# EAGLE library part STM32L476VGT6 (library STM32L476VGT6)
Ultra-low-power with FPU ARM Cortex-M4 MCU 80 MHz with 1 Mbyte Flash, LCD, USB OTG
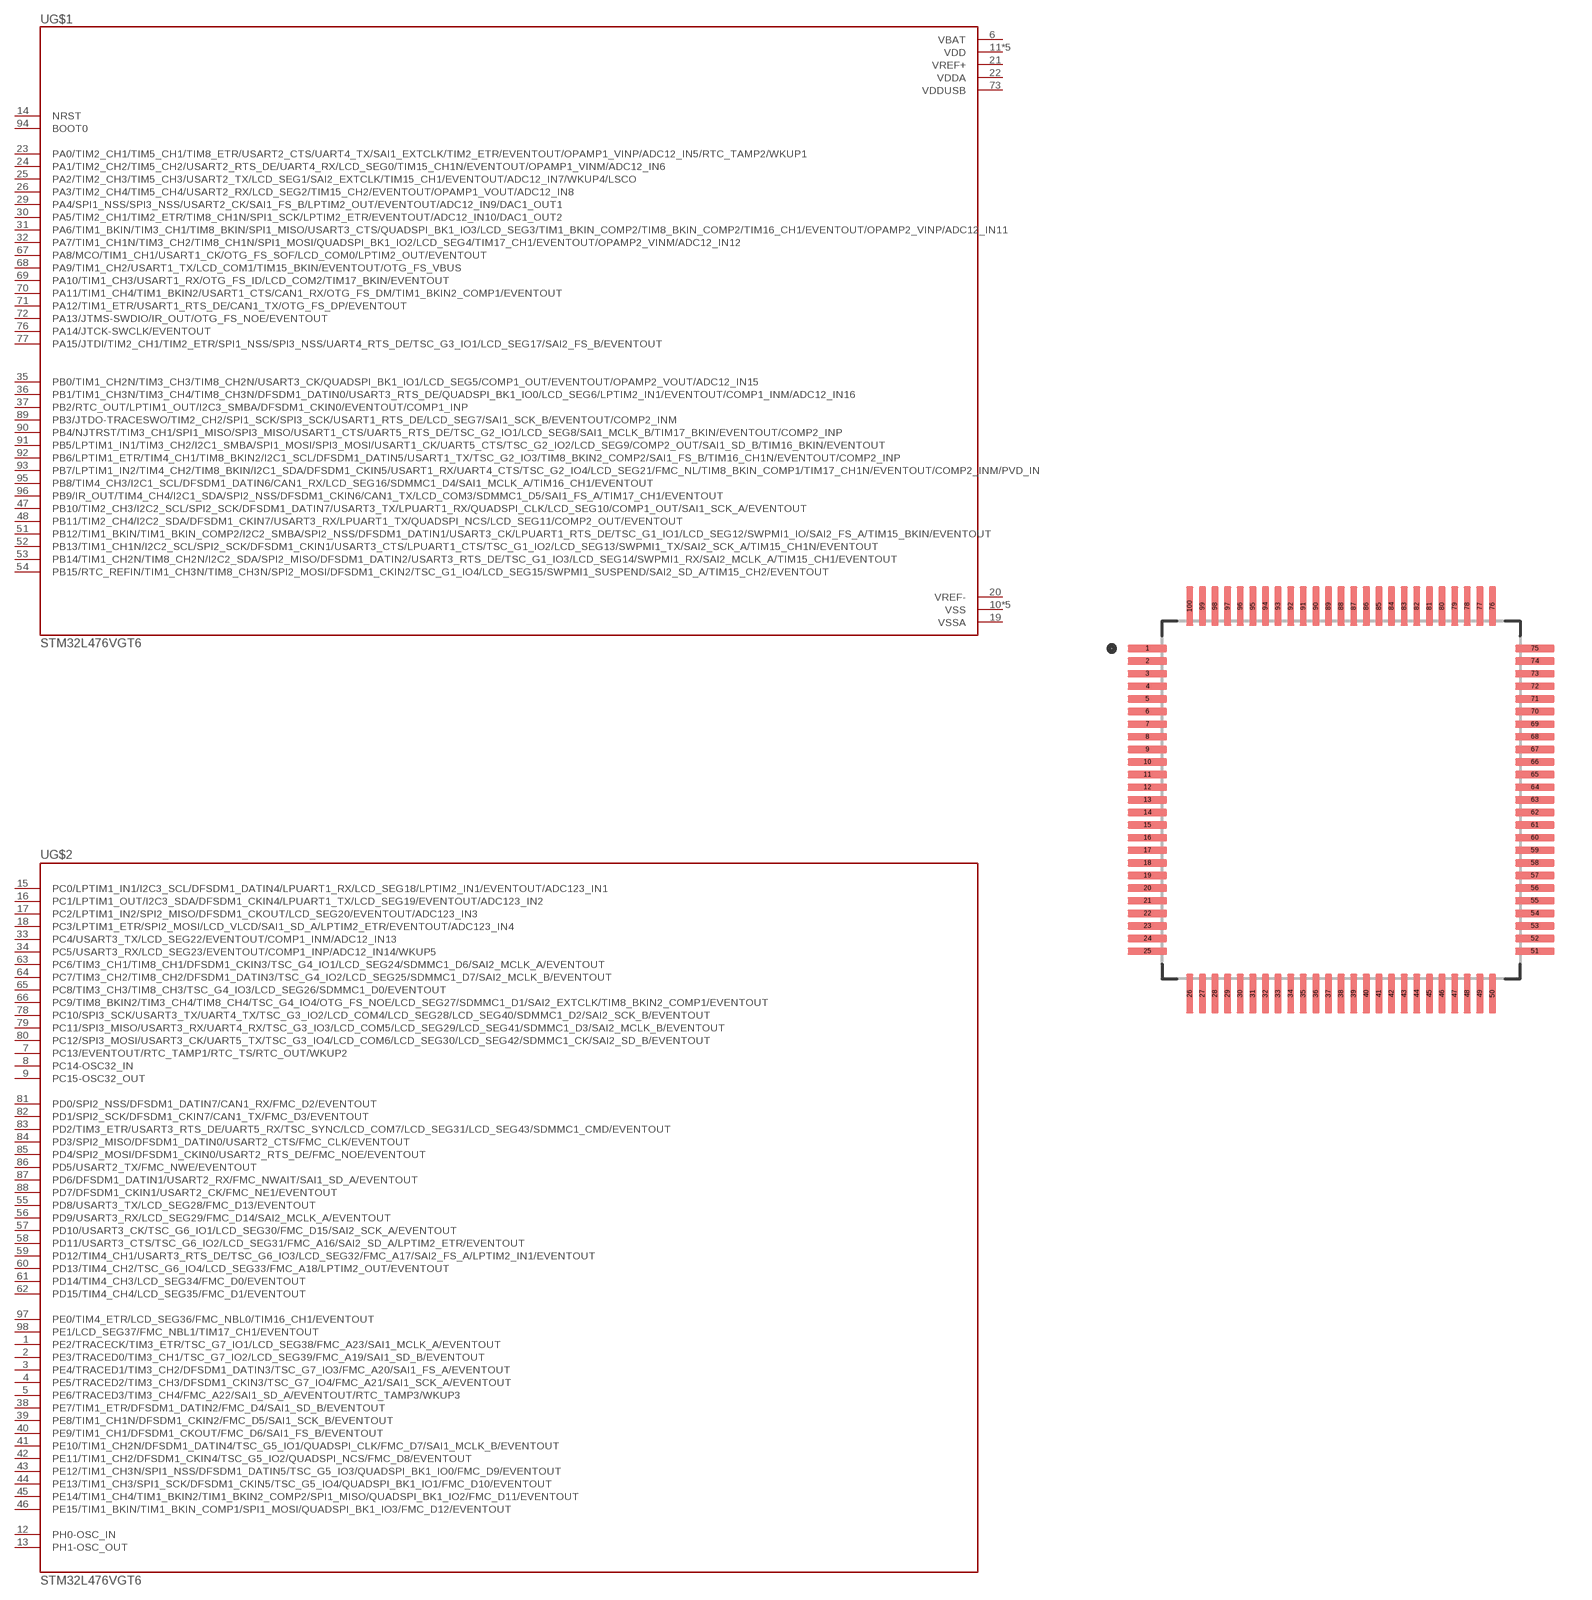
[diagram p0: symbol with the pads of QFP50P1600X1600X160-100N; footprint QFP50P1600X1600X160-100N]

Designator prefix U; gates G$1=STM32L476VGT6_SECTION1 G$2=STM32L476VGT6_SECTION2

## STM32L476VGT6 (Availability: Unavailable; Description: ARM® Cortex®-M4 STM32L4 Microcontroller IC 32-Bit 80MHz 1MB _1M x 8_ FLASH 100-LQFP _14x14_; MF: STMicroelectronics; MP: STM32L476VGT6; Package: LQFP-100 STMicroelectronics; Price: None)  [QFP50P1600X1600X160-100N]
1  G$2:PE2/TRACECK/TIM3_ETR/TSC_G7_IO1/LCD_SEG38/FMC_A23/SAI1_MCLK_A/EVENTOUT
2  G$2:PE3/TRACED0/TIM3_CH1/TSC_G7_IO2/LCD_SEG39/FMC_A19/SAI1_SD_B/EVENTOUT
3  G$2:PE4/TRACED1/TIM3_CH2/DFSDM1_DATIN3/TSC_G7_IO3/FMC_A20/SAI1_FS_A/EVENTOUT
4  G$2:PE5/TRACED2/TIM3_CH3/DFSDM1_CKIN3/TSC_G7_IO4/FMC_A21/SAI1_SCK_A/EVENTOUT
5  G$2:PE6/TRACED3/TIM3_CH4/FMC_A22/SAI1_SD_A/EVENTOUT/RTC_TAMP3/WKUP3
6  G$1:VBAT  pwr
7  G$2:PC13/EVENTOUT/RTC_TAMP1/RTC_TS/RTC_OUT/WKUP2
8  G$2:PC14-OSC32_IN
9  G$2:PC15-OSC32_OUT
10  G$1:VSS  pwr
11  G$1:VDD  pwr
12  G$2:PH0-OSC_IN
13  G$2:PH1-OSC_OUT
14  G$1:NRST  in
15  G$2:PC0/LPTIM1_IN1/I2C3_SCL/DFSDM1_DATIN4/LPUART1_RX/LCD_SEG18/LPTIM2_IN1/EVENTOUT/ADC123_IN1
16  G$2:PC1/LPTIM1_OUT/I2C3_SDA/DFSDM1_CKIN4/LPUART1_TX/LCD_SEG19/EVENTOUT/ADC123_IN2
17  G$2:PC2/LPTIM1_IN2/SPI2_MISO/DFSDM1_CKOUT/LCD_SEG20/EVENTOUT/ADC123_IN3
18  G$2:PC3/LPTIM1_ETR/SPI2_MOSI/LCD_VLCD/SAI1_SD_A/LPTIM2_ETR/EVENTOUT/ADC123_IN4
19  G$1:VSSA  pwr
20  G$1:VREF-  pwr
21  G$1:VREF+  pwr
22  G$1:VDDA  pwr
23  G$1:PA0/TIM2_CH1/TIM5_CH1/TIM8_ETR/USART2_CTS/UART4_TX/SAI1_EXTCLK/TIM2_ETR/EVENTOUT/OPAMP1_VINP/ADC12_IN5/RTC_TAMP2/WKUP1
24  G$1:PA1/TIM2_CH2/TIM5_CH2/USART2_RTS_DE/UART4_RX/LCD_SEG0/TIM15_CH1N/EVENTOUT/OPAMP1_VINM/ADC12_IN6
25  G$1:PA2/TIM2_CH3/TIM5_CH3/USART2_TX/LCD_SEG1/SAI2_EXTCLK/TIM15_CH1/EVENTOUT/ADC12_IN7/WKUP4/LSCO
26  G$1:PA3/TIM2_CH4/TIM5_CH4/USART2_RX/LCD_SEG2/TIM15_CH2/EVENTOUT/OPAMP1_VOUT/ADC12_IN8
27  G$1:VSS  pwr
28  G$1:VDD  pwr
29  G$1:PA4/SPI1_NSS/SPI3_NSS/USART2_CK/SAI1_FS_B/LPTIM2_OUT/EVENTOUT/ADC12_IN9/DAC1_OUT1
30  G$1:PA5/TIM2_CH1/TIM2_ETR/TIM8_CH1N/SPI1_SCK/LPTIM2_ETR/EVENTOUT/ADC12_IN10/DAC1_OUT2
31  G$1:PA6/TIM1_BKIN/TIM3_CH1/TIM8_BKIN/SPI1_MISO/USART3_CTS/QUADSPI_BK1_IO3/LCD_SEG3/TIM1_BKIN_COMP2/TIM8_BKIN_COMP2/TIM16_CH1/EVENTOUT/OPAMP2_VINP/ADC12_IN11
32  G$1:PA7/TIM1_CH1N/TIM3_CH2/TIM8_CH1N/SPI1_MOSI/QUADSPI_BK1_IO2/LCD_SEG4/TIM17_CH1/EVENTOUT/OPAMP2_VINM/ADC12_IN12
33  G$2:PC4/USART3_TX/LCD_SEG22/EVENTOUT/COMP1_INM/ADC12_IN13
34  G$2:PC5/USART3_RX/LCD_SEG23/EVENTOUT/COMP1_INP/ADC12_IN14/WKUP5
35  G$1:PB0/TIM1_CH2N/TIM3_CH3/TIM8_CH2N/USART3_CK/QUADSPI_BK1_IO1/LCD_SEG5/COMP1_OUT/EVENTOUT/OPAMP2_VOUT/ADC12_IN15
36  G$1:PB1/TIM1_CH3N/TIM3_CH4/TIM8_CH3N/DFSDM1_DATIN0/USART3_RTS_DE/QUADSPI_BK1_IO0/LCD_SEG6/LPTIM2_IN1/EVENTOUT/COMP1_INM/ADC12_IN16
37  G$1:PB2/RTC_OUT/LPTIM1_OUT/I2C3_SMBA/DFSDM1_CKIN0/EVENTOUT/COMP1_INP
38  G$2:PE7/TIM1_ETR/DFSDM1_DATIN2/FMC_D4/SAI1_SD_B/EVENTOUT
39  G$2:PE8/TIM1_CH1N/DFSDM1_CKIN2/FMC_D5/SAI1_SCK_B/EVENTOUT
40  G$2:PE9/TIM1_CH1/DFSDM1_CKOUT/FMC_D6/SAI1_FS_B/EVENTOUT
41  G$2:PE10/TIM1_CH2N/DFSDM1_DATIN4/TSC_G5_IO1/QUADSPI_CLK/FMC_D7/SAI1_MCLK_B/EVENTOUT
42  G$2:PE11/TIM1_CH2/DFSDM1_CKIN4/TSC_G5_IO2/QUADSPI_NCS/FMC_D8/EVENTOUT
43  G$2:PE12/TIM1_CH3N/SPI1_NSS/DFSDM1_DATIN5/TSC_G5_IO3/QUADSPI_BK1_IO0/FMC_D9/EVENTOUT
44  G$2:PE13/TIM1_CH3/SPI1_SCK/DFSDM1_CKIN5/TSC_G5_IO4/QUADSPI_BK1_IO1/FMC_D10/EVENTOUT
45  G$2:PE14/TIM1_CH4/TIM1_BKIN2/TIM1_BKIN2_COMP2/SPI1_MISO/QUADSPI_BK1_IO2/FMC_D11/EVENTOUT
46  G$2:PE15/TIM1_BKIN/TIM1_BKIN_COMP1/SPI1_MOSI/QUADSPI_BK1_IO3/FMC_D12/EVENTOUT
47  G$1:PB10/TIM2_CH3/I2C2_SCL/SPI2_SCK/DFSDM1_DATIN7/USART3_TX/LPUART1_RX/QUADSPI_CLK/LCD_SEG10/COMP1_OUT/SAI1_SCK_A/EVENTOUT
48  G$1:PB11/TIM2_CH4/I2C2_SDA/DFSDM1_CKIN7/USART3_RX/LPUART1_TX/QUADSPI_NCS/LCD_SEG11/COMP2_OUT/EVENTOUT
49  G$1:VSS  pwr
50  G$1:VDD  pwr
51  G$1:PB12/TIM1_BKIN/TIM1_BKIN_COMP2/I2C2_SMBA/SPI2_NSS/DFSDM1_DATIN1/USART3_CK/LPUART1_RTS_DE/TSC_G1_IO1/LCD_SEG12/SWPMI1_IO/SAI2_FS_A/TIM15_BKIN/EVENTOUT
52  G$1:PB13/TIM1_CH1N/I2C2_SCL/SPI2_SCK/DFSDM1_CKIN1/USART3_CTS/LPUART1_CTS/TSC_G1_IO2/LCD_SEG13/SWPMI1_TX/SAI2_SCK_A/TIM15_CH1N/EVENTOUT
53  G$1:PB14/TIM1_CH2N/TIM8_CH2N/I2C2_SDA/SPI2_MISO/DFSDM1_DATIN2/USART3_RTS_DE/TSC_G1_IO3/LCD_SEG14/SWPMI1_RX/SAI2_MCLK_A/TIM15_CH1/EVENTOUT
54  G$1:PB15/RTC_REFIN/TIM1_CH3N/TIM8_CH3N/SPI2_MOSI/DFSDM1_CKIN2/TSC_G1_IO4/LCD_SEG15/SWPMI1_SUSPEND/SAI2_SD_A/TIM15_CH2/EVENTOUT
55  G$2:PD8/USART3_TX/LCD_SEG28/FMC_D13/EVENTOUT
56  G$2:PD9/USART3_RX/LCD_SEG29/FMC_D14/SAI2_MCLK_A/EVENTOUT
57  G$2:PD10/USART3_CK/TSC_G6_IO1/LCD_SEG30/FMC_D15/SAI2_SCK_A/EVENTOUT
58  G$2:PD11/USART3_CTS/TSC_G6_IO2/LCD_SEG31/FMC_A16/SAI2_SD_A/LPTIM2_ETR/EVENTOUT
59  G$2:PD12/TIM4_CH1/USART3_RTS_DE/TSC_G6_IO3/LCD_SEG32/FMC_A17/SAI2_FS_A/LPTIM2_IN1/EVENTOUT
60  G$2:PD13/TIM4_CH2/TSC_G6_IO4/LCD_SEG33/FMC_A18/LPTIM2_OUT/EVENTOUT
61  G$2:PD14/TIM4_CH3/LCD_SEG34/FMC_D0/EVENTOUT
62  G$2:PD15/TIM4_CH4/LCD_SEG35/FMC_D1/EVENTOUT
63  G$2:PC6/TIM3_CH1/TIM8_CH1/DFSDM1_CKIN3/TSC_G4_IO1/LCD_SEG24/SDMMC1_D6/SAI2_MCLK_A/EVENTOUT
64  G$2:PC7/TIM3_CH2/TIM8_CH2/DFSDM1_DATIN3/TSC_G4_IO2/LCD_SEG25/SDMMC1_D7/SAI2_MCLK_B/EVENTOUT
65  G$2:PC8/TIM3_CH3/TIM8_CH3/TSC_G4_IO3/LCD_SEG26/SDMMC1_D0/EVENTOUT
66  G$2:PC9/TIM8_BKIN2/TIM3_CH4/TIM8_CH4/TSC_G4_IO4/OTG_FS_NOE/LCD_SEG27/SDMMC1_D1/SAI2_EXTCLK/TIM8_BKIN2_COMP1/EVENTOUT
67  G$1:PA8/MCO/TIM1_CH1/USART1_CK/OTG_FS_SOF/LCD_COM0/LPTIM2_OUT/EVENTOUT
68  G$1:PA9/TIM1_CH2/USART1_TX/LCD_COM1/TIM15_BKIN/EVENTOUT/OTG_FS_VBUS
69  G$1:PA10/TIM1_CH3/USART1_RX/OTG_FS_ID/LCD_COM2/TIM17_BKIN/EVENTOUT
70  G$1:PA11/TIM1_CH4/TIM1_BKIN2/USART1_CTS/CAN1_RX/OTG_FS_DM/TIM1_BKIN2_COMP1/EVENTOUT
71  G$1:PA12/TIM1_ETR/USART1_RTS_DE/CAN1_TX/OTG_FS_DP/EVENTOUT
72  G$1:PA13/JTMS-SWDIO/IR_OUT/OTG_FS_NOE/EVENTOUT
73  G$1:VDDUSB  pwr
74  G$1:VSS  pwr
75  G$1:VDD  pwr
76  G$1:PA14/JTCK-SWCLK/EVENTOUT
77  G$1:PA15/JTDI/TIM2_CH1/TIM2_ETR/SPI1_NSS/SPI3_NSS/UART4_RTS_DE/TSC_G3_IO1/LCD_SEG17/SAI2_FS_B/EVENTOUT
78  G$2:PC10/SPI3_SCK/USART3_TX/UART4_TX/TSC_G3_IO2/LCD_COM4/LCD_SEG28/LCD_SEG40/SDMMC1_D2/SAI2_SCK_B/EVENTOUT
79  G$2:PC11/SPI3_MISO/USART3_RX/UART4_RX/TSC_G3_IO3/LCD_COM5/LCD_SEG29/LCD_SEG41/SDMMC1_D3/SAI2_MCLK_B/EVENTOUT
80  G$2:PC12/SPI3_MOSI/USART3_CK/UART5_TX/TSC_G3_IO4/LCD_COM6/LCD_SEG30/LCD_SEG42/SDMMC1_CK/SAI2_SD_B/EVENTOUT
81  G$2:PD0/SPI2_NSS/DFSDM1_DATIN7/CAN1_RX/FMC_D2/EVENTOUT
82  G$2:PD1/SPI2_SCK/DFSDM1_CKIN7/CAN1_TX/FMC_D3/EVENTOUT
83  G$2:PD2/TIM3_ETR/USART3_RTS_DE/UART5_RX/TSC_SYNC/LCD_COM7/LCD_SEG31/LCD_SEG43/SDMMC1_CMD/EVENTOUT
84  G$2:PD3/SPI2_MISO/DFSDM1_DATIN0/USART2_CTS/FMC_CLK/EVENTOUT
85  G$2:PD4/SPI2_MOSI/DFSDM1_CKIN0/USART2_RTS_DE/FMC_NOE/EVENTOUT
86  G$2:PD5/USART2_TX/FMC_NWE/EVENTOUT
87  G$2:PD6/DFSDM1_DATIN1/USART2_RX/FMC_NWAIT/SAI1_SD_A/EVENTOUT
88  G$2:PD7/DFSDM1_CKIN1/USART2_CK/FMC_NE1/EVENTOUT
89  G$1:PB3/JTDO-TRACESWO/TIM2_CH2/SPI1_SCK/SPI3_SCK/USART1_RTS_DE/LCD_SEG7/SAI1_SCK_B/EVENTOUT/COMP2_INM
90  G$1:PB4/NJTRST/TIM3_CH1/SPI1_MISO/SPI3_MISO/USART1_CTS/UART5_RTS_DE/TSC_G2_IO1/LCD_SEG8/SAI1_MCLK_B/TIM17_BKIN/EVENTOUT/COMP2_INP
91  G$1:PB5/LPTIM1_IN1/TIM3_CH2/I2C1_SMBA/SPI1_MOSI/SPI3_MOSI/USART1_CK/UART5_CTS/TSC_G2_IO2/LCD_SEG9/COMP2_OUT/SAI1_SD_B/TIM16_BKIN/EVENTOUT
92  G$1:PB6/LPTIM1_ETR/TIM4_CH1/TIM8_BKIN2/I2C1_SCL/DFSDM1_DATIN5/USART1_TX/TSC_G2_IO3/TIM8_BKIN2_COMP2/SAI1_FS_B/TIM16_CH1N/EVENTOUT/COMP2_INP
93  G$1:PB7/LPTIM1_IN2/TIM4_CH2/TIM8_BKIN/I2C1_SDA/DFSDM1_CKIN5/USART1_RX/UART4_CTS/TSC_G2_IO4/LCD_SEG21/FMC_NL/TIM8_BKIN_COMP1/TIM17_CH1N/EVENTOUT/COMP2_INM/PVD_IN
94  G$1:BOOT0  in
95  G$1:PB8/TIM4_CH3/I2C1_SCL/DFSDM1_DATIN6/CAN1_RX/LCD_SEG16/SDMMC1_D4/SAI1_MCLK_A/TIM16_CH1/EVENTOUT
96  G$1:PB9/IR_OUT/TIM4_CH4/I2C1_SDA/SPI2_NSS/DFSDM1_CKIN6/CAN1_TX/LCD_COM3/SDMMC1_D5/SAI1_FS_A/TIM17_CH1/EVENTOUT
97  G$2:PE0/TIM4_ETR/LCD_SEG36/FMC_NBL0/TIM16_CH1/EVENTOUT
98  G$2:PE1/LCD_SEG37/FMC_NBL1/TIM17_CH1/EVENTOUT
99  G$1:VSS  pwr
100  G$1:VDD  pwr

## Footprint QFP50P1600X1600X160-100N (pad centres in mm)
smd 1.56 x 0.28: 1 -7.68,6; 2 -7.68,5.5; 3 -7.68,5; 4 -7.68,4.5; 5 -7.68,4; 6 -7.68,3.5; 7 -7.68,3; 8 -7.68,2.5; 9 -7.68,2; 10 -7.68,1.5; 11 -7.68,1; 12 -7.68,0.5; 13 -7.68,0; 14 -7.68,-0.5; 15 -7.68,-1; 16 -7.68,-1.5; 17 -7.68,-2; 18 -7.68,-2.5; 19 -7.68,-3; 20 -7.68,-3.5; 21 -7.68,-4; 22 -7.68,-4.5; 23 -7.68,-5; 24 -7.68,-5.5; 25 -7.68,-6; 51 7.68,-6; 52 7.68,-5.5; 53 7.68,-5; 54 7.68,-4.5; 55 7.68,-4; 56 7.68,-3.5; 57 7.68,-3; 58 7.68,-2.5; 59 7.68,-2; 60 7.68,-1.5; 61 7.68,-1; 62 7.68,-0.5; 63 7.68,0; 64 7.68,0.5; 65 7.68,1; 66 7.68,1.5; 67 7.68,2; 68 7.68,2.5; 69 7.68,3; 70 7.68,3.5; 71 7.68,4; 72 7.68,4.5; 73 7.68,5; 74 7.68,5.5; 75 7.68,6
smd 0.28 x 1.56: 26 -6,-7.68; 27 -5.5,-7.68; 28 -5,-7.68; 29 -4.5,-7.68; 30 -4,-7.68; 31 -3.5,-7.68; 32 -3,-7.68; 33 -2.5,-7.68; 34 -2,-7.68; 35 -1.5,-7.68; 36 -1,-7.68; 37 -0.5,-7.68; 38 0,-7.68; 39 0.5,-7.68; 40 1,-7.68; 41 1.5,-7.68; 42 2,-7.68; 43 2.5,-7.68; 44 3,-7.68; 45 3.5,-7.68; 46 4,-7.68; 47 4.5,-7.68; 48 5,-7.68; 49 5.5,-7.68; 50 6,-7.68; 76 6,7.68; 77 5.5,7.68; 78 5,7.68; 79 4.5,7.68; 80 4,7.68; 81 3.5,7.68; 82 3,7.68; 83 2.5,7.68; 84 2,7.68; 85 1.5,7.68; 86 1,7.68; 87 0.5,7.68; 88 0,7.68; 89 -0.5,7.68; 90 -1,7.68; 91 -1.5,7.68; 92 -2,7.68; 93 -2.5,7.68; 94 -3,7.68; 95 -3.5,7.68; 96 -4,7.68; 97 -4.5,7.68; 98 -5,7.68; 99 -5.5,7.68; 100 -6,7.68